# EAGLE library part SOT89_NJM2884U1-33 (library mathrax-touch)
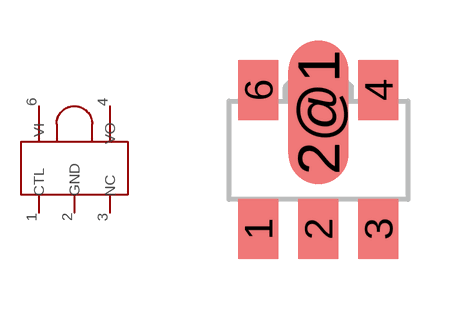
[diagram p0: symbol with the pads of SOT89_SOT89; footprint SOT89_SOT89]

Designator prefix -

## SOT89_NJM2884U1-33  [SOT89_SOT89]
1  CTL
2  GND
2@1  GND
3  NC
4  VO
6  VI

## Footprint SOT89_SOT89 (pad centres in mm)
SOT98 PK (R-PDSO-G3) Source: http://focus.ti.com/lit/ds/symlink/ua78l05.pdf
smd 1 x 1.5: 1 -1.499,-1.981; 2 0,-1.981; 3 1.499,-1.981; 4 1.5,1.5; 6 -1.5,1.5
smd 1.5 x 3.6: 2@1 0,0.94